# Altium footprint library 3031.PcbLib: 1 footprints
Each footprint in its own frame and in the unit in brackets; x right, y up, seen from the top. Pads: shape width x height; smd on the part's side, far side on the other; paste and mask are expansions set on the pad; w line width, h text height; cw(c..) or ccw(c..) is an arc to the next point about the centre after c.
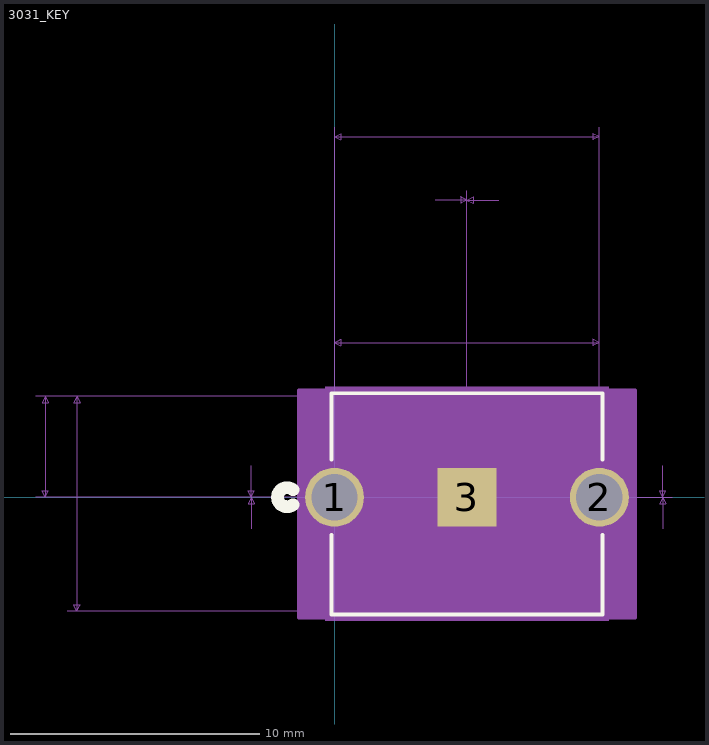
[diagram p0: the footprint, top view; thin cyan lines are the x and y axes]

## 3031_KEY [mil]
pads (3):
  round 93 hole 73 mask+0: 1(0,0) 2(418,0)
  rect 93x93 smd: 3(209,0)
Top Overlay:
  lines w6: -5,-59.39 -5,-185 423,-185 423,-59.39 ; -5,59.39 -5,164 423,164 423,59.39
  lines w20: -65.57,-11.67 cw(c-75,0) -65.57,11.67
Bottom Overlay:
  circle w20: c-75,0 r15
Mechanical 5:
  region: -15,174 433,174 433,-195 -15,-195
Mechanical 7:
  lines w1: -471.5,0 209,0 ; -471.5,159 0,159 ; -421.5,-180 0,-180 ; -421.5,159 0,159 ; -131.5,-50 -131.5,0 ; -131.5,50 -131.5,0 ; 0,259 0,0 ; 0,584 0,159 ; 159,469 209,469 ; 259,469 209,469 ; 418,0 418,259 ; 418,159 418,584 ; 518,-50 518,0 ; 518,50 518,0 ; -456.5,0 -456.5,159 ; -456.5,0 -461.5,10 -451.5,10 -456.5,0 ; -456.5,159 -461.5,149 -451.5,149 -456.5,159 ; -406.5,-180 -406.5,159 ; -406.5,-180 -411.5,-170 -401.5,-170 -406.5,-180 ; -406.5,159 -411.5,149 -401.5,149 -406.5,159 ; -131.5,0 -136.5,10 -126.5,10 -131.5,0 ; -131.5,0 -136.5,-10 -126.5,-10 -131.5,0 ; 0,0 533,0 0,0 ; 0,244 418,244 ; 0,244 10,249 10,239 0,244 ; 0,569 418,569 ; 0,569 10,574 10,564 0,569 ; 209,0 209,484 209,0 ; 209,0 -146.5,0 209,0 ; 209,469 199,474 199,464 209,469 ; 209,469 219,474 219,464 209,469 ; 418,244 408,249 408,239 418,244 ; 418,569 408,574 408,564 418,569 ; 518,0 513,10 523,10 518,0 ; 518,0 513,-10 523,-10 518,0
  text "Default Padstyle: EX93Y93D73P" at -153.5,-340 h50
  text "1st Mtg Padstyle: RX93Y93D0T" at -141,-415 h50
  text "2nd Mtg Padstyle: RX50Y100D40P" at -166,-490 h50
  text "3rd Mtg Padstyle: RX100Y50D40P" at -166,-565 h50
  text "Left Mtg Padstyle: RX50Y100D30P" at -178.5,-640 h50
  text "Right Mtg Padstyle: RX50Y100D30P" at -191,-715 h50
  text "Alt Padstyle 1: OX60Y90D30P" at -128.5,-790 h50
  text "Alt Padstyle 2: OX90Y60D30P" at -128.5,-865 h50
  text "0.418in/10.617mm" at -204.5,264 h25
  text "0in/0mm" at 165.25,489 h25
  text "0.418in/10.617mm" at 109,589 h25
  text "0in/0mm" at 538,-12.5 h25
  text "0in/0mm" at -239,-12.5 h25
  text "0.159in/4.039mm" at -664,67 h25
  text "0.339in/8.611mm" at -614,-23 h25
Mechanical 13:
  circle w20: c0,75 r15
  lines w1: 0,-180 418,-180 418,159 0,159 0,-180
Mechanical 15:
  region: 474.5,169 -56.5,169 -56.5,-190 474.5,-190
  lines w6: -56.5,-190 -56.5,169 474.5,169 474.5,-190 -56.5,-190
3D body: height 10, standoff 0, extent 0,0 10,10